# EAGLE library part AP3602AKTR-G1 (library AP3602AKTR-G1)
Switching Voltage Regulators LED Backlight Source: Datasheet <https://www.diodes.com//assets/Datasheets/AP3602A.pdf>
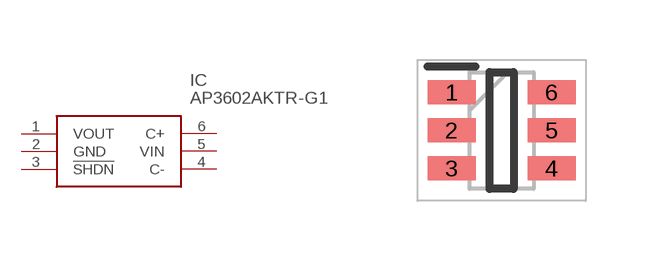
[diagram p0: symbol with the pads of SOT95P280X125-6N; footprint SOT95P280X125-6N]

Designator prefix IC

## AP3602AKTR-G1 (Description: Switching Voltage Regulators LED Backlight; Height: 1.25mm; Manufacturer_Name: Diodes Incorporated; Manufacturer_Part_Number: AP3602AKTR-G1; Mouser_Part_Number: 621-AP3602AKTR-G1; Mouser_Price-Stock: https://www.mouser.co.uk/ProductDetail/Diodes-Incorporated/AP3602AKTR-G1?qs=5V6w%252Be2aIqZe7SZnxovZqw%3D%3D)  [SOT95P280X125-6N]
1  VOUT
2  GND
3  !SHDN
4  C-
5  VIN
6  C+

## Footprint SOT95P280X125-6N (pad centres in mm)
SOT26 (Type CJ)
smd 1.2 x 0.6: 1 -1.25,0.95; 2 -1.25,0; 3 -1.25,-0.95; 4 1.25,-0.95; 5 1.25,0; 6 1.25,0.95